# Altium schematic symbol library Schlib1.SchLib: 8 symbols
Pins are listed as number, name and electrical type; pins without a type are passive.

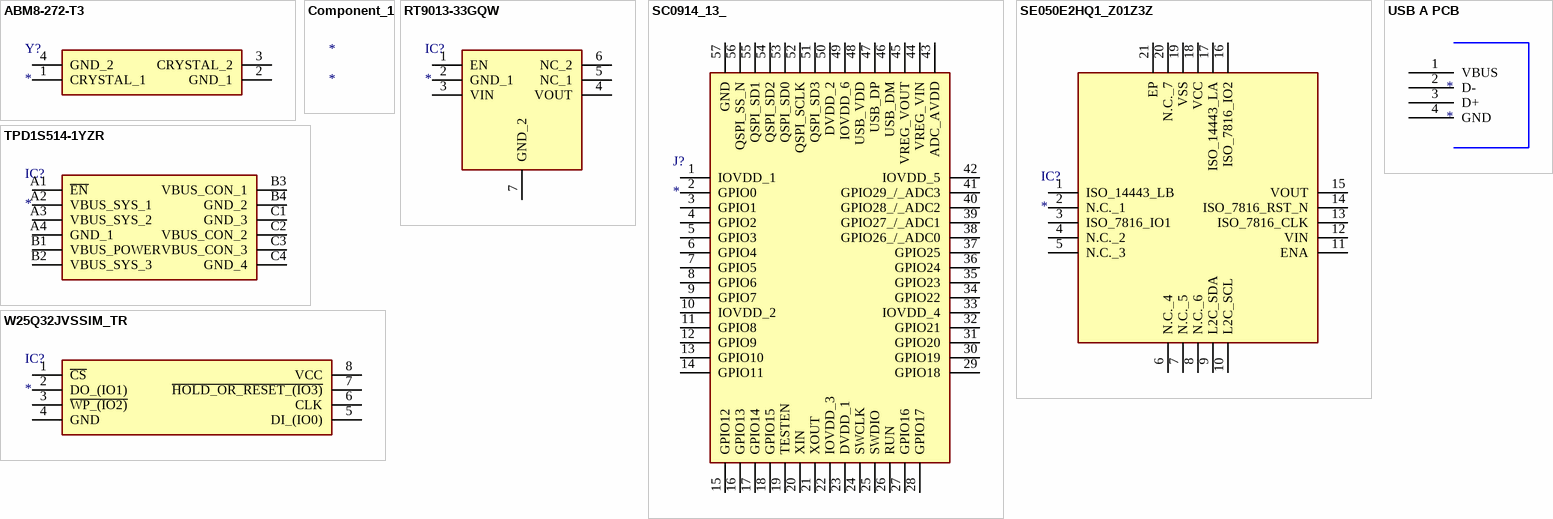
[diagram p0: symbols ABM8-272-T3 to W25Q32JVSSIM_TR]

## ABM8-272-T3
designator Y?
Crystal or Oscillator; Manufacturer_Name: ABRACON; Manufacturer_Part_Number: ABM8-272-T3; Datasheet Link: https://abracon.com/datasheets/ABM8-272-T3.pdf; Height: 0.8mm; Mouser Part Number: 815-ABM8-272-T3; Mouser Price/Stock: https://www.mouser.co.uk/ProductDetail/ABRACON/ABM8-272-T3?qs=QpmGXVUTftEj6miOiJBMxQ%3D%3D
footprint ABM8272T3
pins: 1 CRYSTAL_1, 2 GND_1, 3 CRYSTAL_2, 4 GND_2

## Component_1
designator *

## RT9013-33GQW
designator IC?
Integrated Circuit; Manufacturer_Name: RICHTEK; Manufacturer_Part_Number: RT9013-33GQW; Datasheet Link: https://eu.mouser.com/datasheet/2/1458/DS9013_10-3104853.pdf; Height: 0.8mm; Mouser Part Number: 835-RT9013-33GQW; Mouser Price/Stock: https://www.mouser.co.uk/ProductDetail/Richtek/RT9013-33GQW?qs=amGC7iS6iy%2Fa0fR0lBiZlg%3D%3D
footprint SON65P200X200X80-7N
pins: 1 EN, 2 GND_1, 3 VIN, 4 VOUT, 5 NC_1, 6 NC_2, 7 GND_2

## SC0914_13_
designator J?
Connector; Manufacturer_Name: RASPBERRY-PI; Manufacturer_Part_Number: SC0914(13); Datasheet Link: https://datasheets.raspberrypi.com/rp2040/rp2040-datasheet.pdf; Height: 0.9mm; Mouser Part Number: 358-SC091413; Mouser Price/Stock: https://www.mouser.co.uk/ProductDetail/Raspberry-Pi/SC091413?qs=T%252BzbugeAwjhr%252BUbBr3TJcw%3D%3D
footprint SC091413
pins: 1 IOVDD_1, 2 GPIO0, 3 GPIO1, 4 GPIO2, 5 GPIO3, 6 GPIO4, 7 GPIO5, 8 GPIO6, 9 GPIO7, 10 IOVDD_2, 11 GPIO8, 12 GPIO9, 13 GPIO10, 14 GPIO11, 15 GPIO12, 16 GPIO13, 17 GPIO14, 18 GPIO15, 19 TESTEN, 20 XIN, 21 XOUT, 22 IOVDD_3, 23 DVDD_1, 24 SWCLK, 25 SWDIO, 26 RUN, 27 GPIO16, 28 GPIO17, 29 GPIO18, 30 GPIO19, 31 GPIO20, 32 GPIO21, 33 IOVDD_4, 34 GPIO22, 35 GPIO23, 36 GPIO24, 37 GPIO25, 38 GPIO26_/_ADC0, 39 GPIO27_/_ADC1, 40 GPIO28_/_ADC2, 41 GPIO29_/_ADC3, 42 IOVDD_5, 43 ADC_AVDD, 44 VREG_VIN, 45 VREG_VOUT, 46 USB_DM, 47 USB_DP, 48 USB_VDD, 49 IOVDD_6, 50 DVDD_2, 51 QSPI_SD3, 52 QSPI_SCLK, 53 QSPI_SD0, 54 QSPI_SD2, 55 QSPI_SD1, 56 QSPI_SS_N, 57 GND

## SE050E2HQ1_Z01Z3Z
designator IC?
Integrated Circuit; Manufacturer_Name: NXP; Manufacturer_Part_Number: SE050E2HQ1/Z01Z3Z; Datasheet Link: https://www.nxp.com/docs/en/package-information/SOT1969-1.pdf; Height: 0.33mm; Mouser Part Number: 771-SE050E2HQ1Z01Z3Z; Mouser Price/Stock: https://www.mouser.co.uk/ProductDetail/NXP-Semiconductors/SE050E2HQ1-Z01Z3Z?qs=MyNHzdoqoQJLcBuQE9NcBA%3D%3D; Arrow Part Number: SE050E2HQ1/Z01Z3Z; Arrow Price/Stock: https://www.arrow.com/en/products/se050e2hq1z01z3z/nxp-semiconductors?utm_currency=USD&region=nac
footprint QFN40P300X300X33-21N-D
pins: 1 ISO_14443_LB, 2 N.C._1, 3 ISO_7816_IO1, 4 N.C._2, 5 N.C._3, 6 N.C._4, 7 N.C._5, 8 N.C._6, 9 L2C_SDA, 10 L2C_SCL, 11 ENA, 12 VIN, 13 ISO_7816_CLK, 14 ISO_7816_RST_N, 15 VOUT, 16 ISO_7816_IO2, 17 ISO_14443_LA, 18 VCC, 19 VSS, 20 N.C._7, 21 EP

## TPD1S514-1YZR
designator IC?
Integrated Circuit; Manufacturer_Name: Texas Instruments; Manufacturer_Part_Number: TPD1S514-1YZR; Datasheet Link: http://www.ti.com/lit/gpn/tpd1s514; Height: 0.625mm; Mouser Part Number: 595-TPD1S514-1YZR; Mouser Price/Stock: https://www.mouser.co.uk/ProductDetail/Texas-Instruments/TPD1S514-1YZR?qs=U0ECReq1GB8vEu4GjuBhFg%3D%3D; Arrow Part Number: TPD1S514-1YZR; Arrow Price/Stock: https://www.arrow.com/en/products/tpd1s514-1yzr/texas-instruments
footprint BGA12C40P4X3_199X129X62
pins: A1 ~{EN}, A2 VBUS_SYS_1, A3 VBUS_SYS_2, A4 GND_1, B1 VBUS_POWER, B2 VBUS_SYS_3, B3 VBUS_CON_1, B4 GND_2, C1 GND_3, C2 VBUS_CON_2, C3 VBUS_CON_3, C4 GND_4

## USB A PCB
designator *
footprint USB PCB TRACE (USB TYPE A on PCB TRACE)
pins: 1 VBUS, 2 D-, 3 D+, 4 GND

## W25Q32JVSSIM_TR
designator IC?
Integrated Circuit; Manufacturer_Name: Winbond; Manufacturer_Part_Number: W25Q32JVSSIM TR; Datasheet Link: https://www.mouser.com/datasheet/2/949/w25q32jv_dtr_revg_03272018_plus-1489786.pdf; Height: 2.16mm; Mouser Part Number: 454-W25Q32JVSSIMTR; Mouser Price/Stock: https://www.mouser.co.uk/ProductDetail/Winbond/W25Q32JVSSIM-TR?qs=qSfuJ%252Bfl%2Fd55hO45Ox4sXQ%3D%3D; Arrow Part Number: W25Q32JVSSIM TR; Arrow Price/Stock: https://www.arrow.com/en/products/w25q32jvssimtr/winbond-electronics?utm_currency=USD&region=nac
footprint SOIC127P790X216-8N
pins: 1 ~{CS}, 2 DO_(IO1), 3 ~{WP_(IO2)}, 4 GND, 5 DI_(IO0), 6 CLK, 7 ~{HOLD_OR_RESET_(IO3)}, 8 VCC